# Altium footprint library B39162B3913U410.PcbLib: 3 footprints
Each footprint in its own frame and in the unit in brackets; x right, y up, seen from the top. Pads: shape width x height; smd on the part's side, far side on the other; paste and mask are expansions set on the pad; w line width, h text height; cw(c..) or ccw(c..) is an arc to the next point about the centre after c.
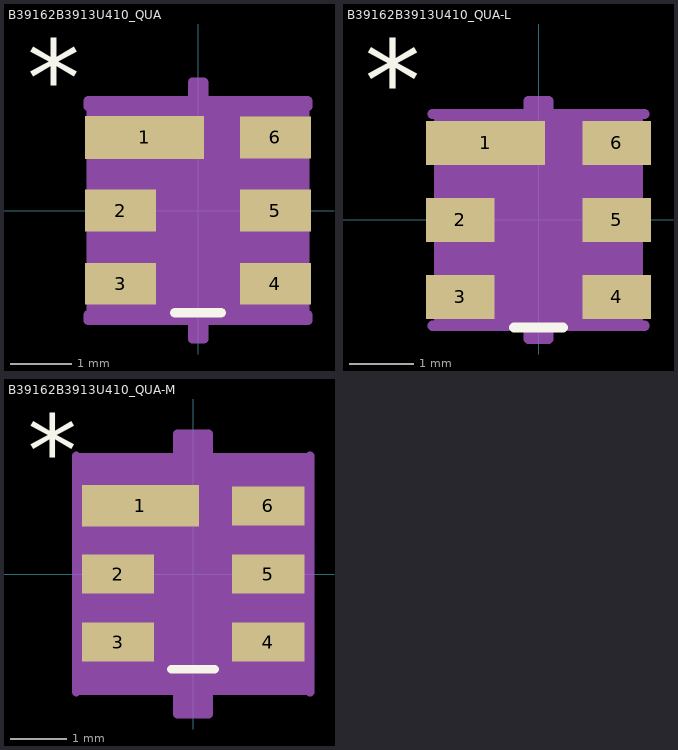
[diagram p0: the footprints below, top view; thin cyan lines are the x and y axes]

## B39162B3913U410_QUA [mil]
pads (6):
  rect 77x28 smd paste+0 mask+0: 1(-34.5,47.24)
  rect 46x27 smd paste+0 mask+0: 2(-50,0) 3(-50,-47.24) 4(50,-47.24) 5(50,0) 6(50,47.24)
Top Overlay:
  lines w6: -15,-66 15,-66
  text "*" at -110.5,60.87 h50
Mechanical 13:
  lines w1: -61,11 -11,61 ; -61,-61.24 -61,-33.24 ; -61,-61.24 -61,-33.24 ; -61,-61.24 -61,-61.24 ; -61,-33.24 -61,-33.24 ; -61,-14 -61,14 ; -61,-14 -61,14 ; -61,-14 -61,-14 ; -61,14 -61,14 ; -61,33.24 -61,61.24 ; -61,33.24 -61,61.24 ; -61,33.24 -61,33.24 ; -61,61.24 -61,61.24 ; 61,-61.24 61,-33.24 ; 61,-61.24 61,-61.24 ; 61,-61.24 61,-33.24 ; 61,-33.24 61,-33.24 ; 61,-14 61,14 ; 61,-14 61,-14 ; 61,-14 61,14 ; 61,14 61,14 ; 61,33.24 61,61.24 ; 61,33.24 61,33.24 ; 61,33.24 61,61.24 ; 61,61.24 61,61.24 ; -61,-61 61,-61 61,61 -61,61 -61,-61
  text "*" at -53.5,-9 h50
Mechanical 15:
  region: 3.62,-71 -71,-71 -71,-67.24 -69,-67.24 -69,67.24 -71,67.24 -71,71 3.62,71 3.62,83 -3.62,83 -3.62,71 71,71 71,67.24 69,67.24 69,-67.24 71,-67.24 71,-71 -3.62,-71 -3.62,-83 3.62,-83
  lines w6: -71,-71 -71,-67.24 -69,-67.24 -69,67.24 -71,67.24 -71,71 3.62,71 3.62,83 -3.62,83 -3.62,71 71,71 71,67.24 69,67.24 69,-67.24 71,-67.24 71,-71 -3.62,-71 -3.62,-83 3.62,-83 3.62,-71 -71,-71
3D body "B39162B3913U410_QUA.step": height 48.11, standoff 0, extent -62.99,-61.26 62.99,61.26

## B39162B3913U410_QUA-L [mil]
pads (6):
  rect 73x27 smd paste+0 mask+0: 1(-32.5,47.24)
  rect 42x27 smd paste+0 mask+0: 2(-48,0) 3(-48,-47.24) 4(48,-47.24) 5(48,0) 6(48,47.24)
Top Overlay:
  lines w6: -15,-66 15,-66
  text "*" at -106.5,60.87 h50
Mechanical 13:
  lines w1: -61,11 -11,61 ; -61,-61.24 -61,-33.24 ; -61,-61.24 -61,-33.24 ; -61,-61.24 -61,-61.24 ; -61,-33.24 -61,-33.24 ; -61,-14 -61,14 ; -61,-14 -61,14 ; -61,-14 -61,-14 ; -61,14 -61,14 ; -61,33.24 -61,61.24 ; -61,33.24 -61,61.24 ; -61,33.24 -61,33.24 ; -61,61.24 -61,61.24 ; 61,-61.24 61,-33.24 ; 61,-61.24 61,-61.24 ; 61,-61.24 61,-33.24 ; 61,-33.24 61,-33.24 ; 61,-14 61,14 ; 61,-14 61,-14 ; 61,-14 61,14 ; 61,14 61,14 ; 61,33.24 61,61.24 ; 61,33.24 61,33.24 ; 61,33.24 61,61.24 ; 61,61.24 61,61.24 ; -61,-61 61,-61 61,61 -61,61 -61,-61
  text "*" at -53.5,-9 h50
Mechanical 15:
  region: 6.12,-65 -65,-65 -65,-64.74 -61,-64.74 -61,64.74 -65,64.74 -65,65 6.12,65 6.12,73 -6.12,73 -6.12,65 65,65 65,64.74 61,64.74 61,-64.74 65,-64.74 65,-65 -6.12,-65 -6.12,-73 6.12,-73
  lines w6: -65,-65 -65,-64.74 -61,-64.74 -61,64.74 -65,64.74 -65,65 6.12,65 6.12,73 -6.12,73 -6.12,65 65,65 65,64.74 61,64.74 61,-64.74 65,-64.74 65,-65 -6.12,-65 -6.12,-73 6.12,-73 6.12,-65 -65,-65
3D body "B39162B3913U410_QUA.step": height 48.11, standoff 0, extent -62.99,-61.26 62.99,61.26

## B39162B3913U410_QUA-M [mil]
pads (6):
  rect 81x29 smd paste+0 mask+0: 1(-36.5,47.24)
  rect 50x27 smd paste+0 mask+0: 2(-52,0) 3(-52,-47.24) 4(52,-47.24) 5(52,0) 6(52,47.24)
Top Overlay:
  lines w6: -15,-66 15,-66
  text "*" at -114.5,60.87 h50
Mechanical 13:
  lines w1: -61,11 -11,61 ; -61,-61.24 -61,-33.24 ; -61,-61.24 -61,-33.24 ; -61,-61.24 -61,-61.24 ; -61,-33.24 -61,-33.24 ; -61,-14 -61,14 ; -61,-14 -61,14 ; -61,-14 -61,-14 ; -61,14 -61,14 ; -61,33.24 -61,61.24 ; -61,33.24 -61,61.24 ; -61,33.24 -61,33.24 ; -61,61.24 -61,61.24 ; 61,-61.24 61,-33.24 ; 61,-61.24 61,-61.24 ; 61,-61.24 61,-33.24 ; 61,-33.24 61,-33.24 ; 61,-14 61,14 ; 61,-14 61,-14 ; 61,-14 61,14 ; 61,14 61,14 ; 61,33.24 61,61.24 ; 61,33.24 61,33.24 ; 61,33.24 61,61.24 ; 61,61.24 61,61.24 ; -61,-61 61,-61 61,61 -61,61 -61,-61
  text "*" at -53.5,-9 h50
Mechanical 15:
  region: -10.88,-81 -81,-81 -81,-81.74 -81,81.74 -81,81 -10.88,81 -10.88,97 10.88,97 10.88,81 81,81 81,81.74 81,-81.74 81,-81 10.88,-81 10.88,-97 -10.88,-97
  lines w6: -81,-81.74 -81,-81 -10.88,-81 -10.88,-97 10.88,-97 10.88,-81 81,-81 81,-81.74 ; -81,-81.74 -81,-81.74 ; -81,-81.74 -81,81.74 ; -81,81.74 -81,81.74 ; -81,81.74 -81,81 -10.88,81 -10.88,97 10.88,97 10.88,81 81,81 81,81.74 ; 81,-81.74 81,81.74 ; 81,-81.74 81,-81.74 ; 81,81.74 81,81.74
3D body "B39162B3913U410_QUA.step": height 48.11, standoff 0, extent -62.99,-61.26 62.99,61.26